# Altium schematic symbol library L1812.SchLib: 1 symbol
Pins are listed as number, name and electrical type; pins without a type are passive.

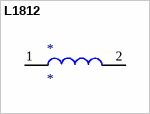
[diagram p0: symbol L1812]

## L1812
designator *
Vishay IMC1812ER150J
footprint L1812
pins: 1, 2